# Altium schematic symbol library imx8mnano.SchLib: 20 symbols
Pins are listed as number, name and electrical type; pins without a type are passive.

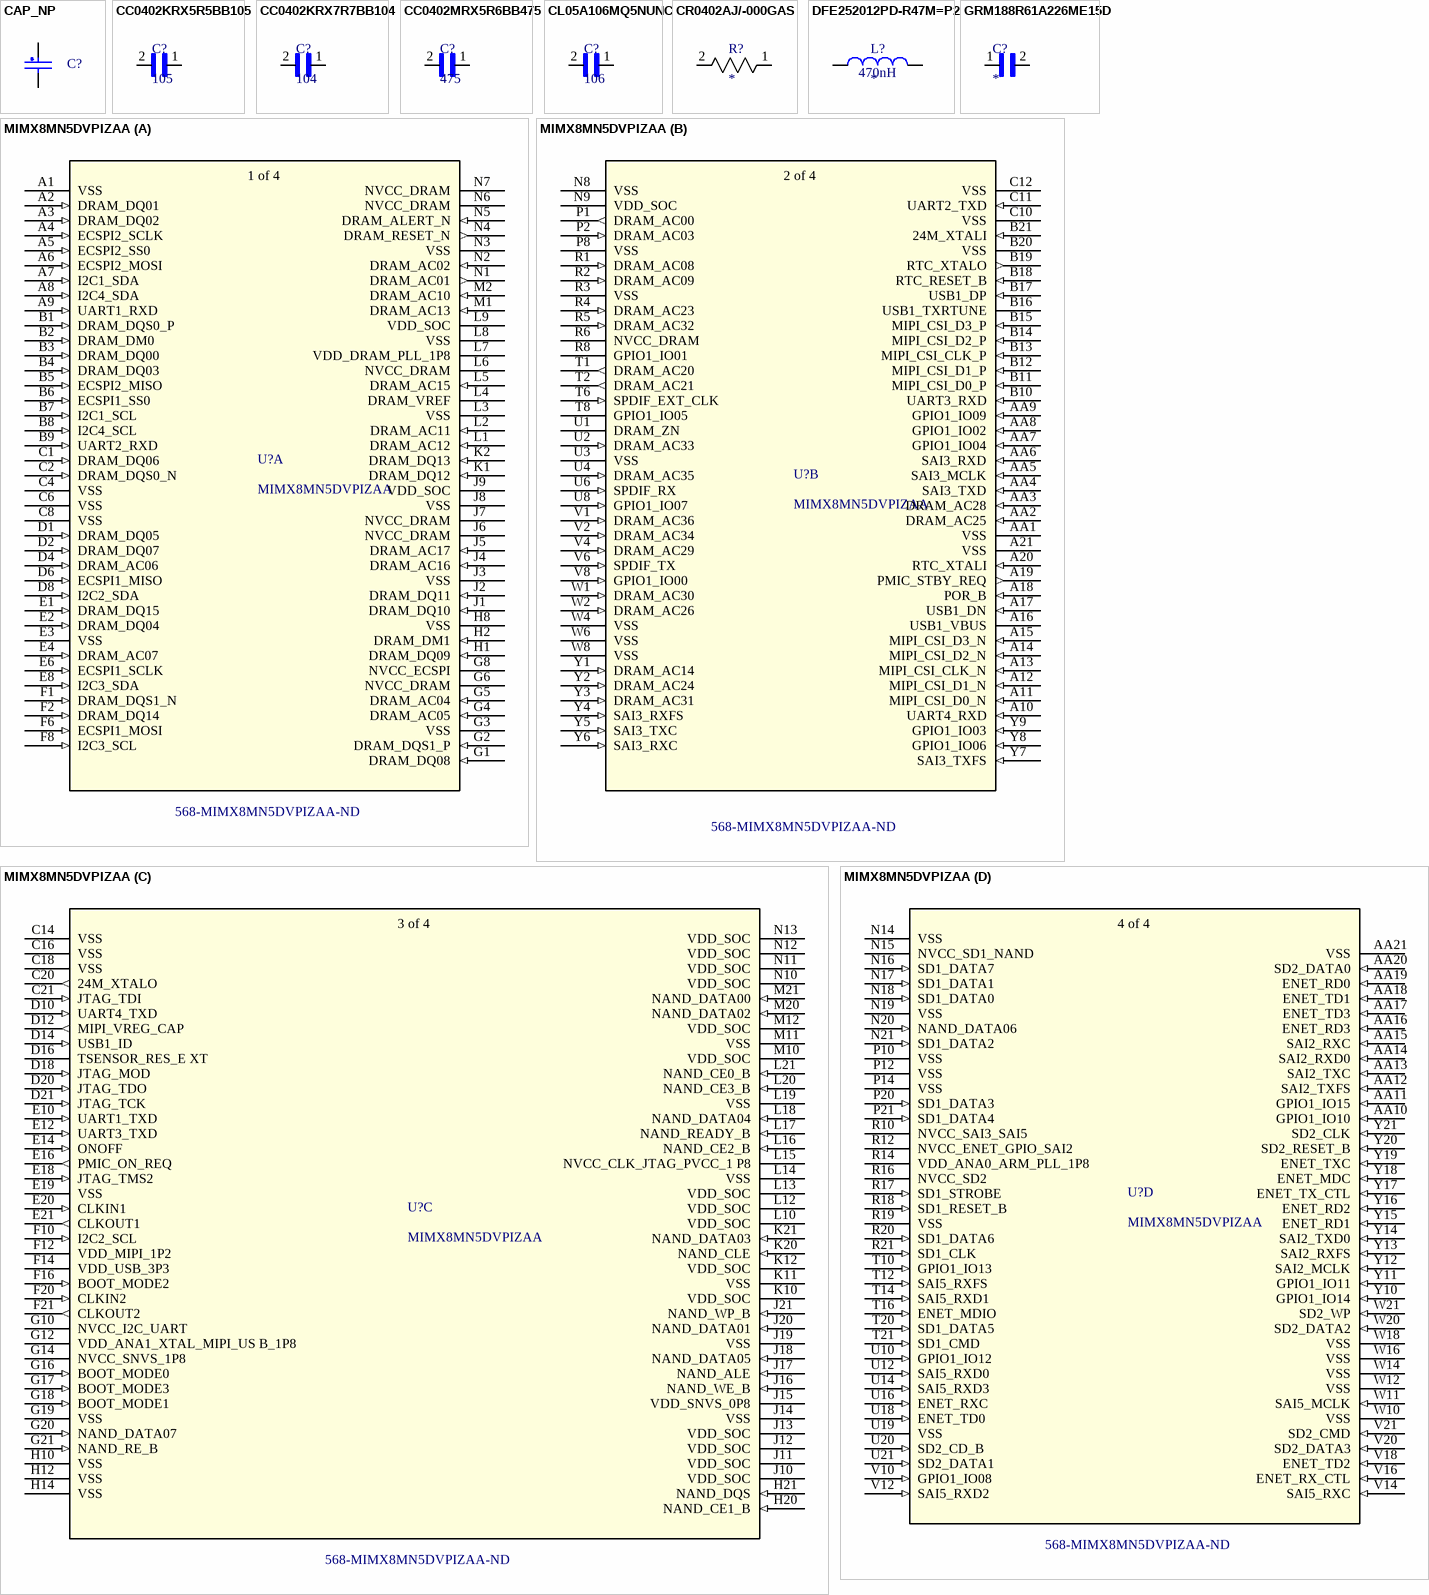
[diagram p0: symbols CAP_NP to MIMX8MN5DVPIZAA]

## CAP_NP
designator C?
CLASS: DISCRETE
footprint RC0402
pins: 1, 2

## CC0402KRX5R5BB105
designator C?, comment 105
Multilayer Ceramic Capacitor, 1 uF, 100 V, ï¿½ 10%, X7R, 0402 [1005 Metric]; Manufacturer: Yageo; Manufacturer Part Number: CC0402KRX5R5BB105; Capacitance: 1uF; Voltage Rating: 6.3V; Dielectric: X5R; Temperature Coefficient: 30ppm/°C; Supplier 1: Digikey; RoHS: Yes; Category: Ceramic Capacitors; Stock 1: 21136934; Pricing 1: 1=0.1, 10=0.054, 100=0.0318, 1000=0.02066, 2500=0.01646, 5000=0.01625 (USD); Mount: Surface Mount; Case/Package: 0402; Number of Pins: 2; Case Code (Metric): 1005; Case Code (Imperial): 0402; Dielectric Material: Ceramic; Material: Ceramic; Min Operating Temperature: -55°C; Max Operating Temperature: 85°C; Tolerance: 10%; Voltage Rating (DC): 6.3V; Packaging: Tape and Reel; Termination: SMD/SMT; Series: CC; Voltage Rating (AC): 6.3V; Length: 1mm; Width: 0.5mm; Height: 0.5mm; Depth: 0.5mm; Radiation Hardening: No; Reach SVHC Compliant: No; Lead Free: Lead Free; RoHS Compliant: Yes; Halogen Free: 5694HalogenFree; ComponentLink1URL: https://datasheet.ciiva.com/5789/70765-5789520.pdf?src-supplier=Farnell; ComponentLink1Description: https://datasheet.ciiva.com/5789/70765-5789520.pdf?src-supplier=Farnell; ComponentLink2URL: https://datasheet.ciiva.com/176/mlccorderingcode-176609.pdf?src-supplier=Digikey; ComponentLink2Description: https://datasheet.ciiva.com/176/mlccorderingcode-176609.pdf?src-supplier=Digikey; ComponentLink3URL: https://datasheet.ciiva.com/176/mlccorderingcode-176610.pdf?src-supplier=Digikey; ComponentLink3Description: https://datasheet.ciiva.com/176/mlccorderingcode-176610.pdf?src-supplier=Digikey; ComponentLink4URL: https://datasheet.ciiva.com/176/mlccorderingcode-176611.pdf?src-supplier=Digikey; ComponentLink4Description: https://datasheet.ciiva.com/176/mlccorderingcode-176611.pdf?src-supplier=Digikey; ComponentLink5URL: https://datasheet.ciiva.com/11464/upy-gphc-x5r-4v-to-50v-12-11464863.pdf?src-supplier=Avnet; ComponentLink5Description: https://datasheet.ciiva.com/11464/upy-gphc-x5r-4v-to-50v-12-11464863.pdf?src-supplier=Avnet; ComponentLink6URL: https://datasheet.ciiva.com/8033/1525783-8033643.pdf?src-supplier=Element14; ComponentLink6Description: https://datasheet.ciiva.com/8033/1525783-8033643.pdf?src-supplier=Element14; ComponentLink7URL: https://datasheet.ciiva.com/8033/1525783-8033644.pdf?src-supplier=Element14; ComponentLink7Description: https://datasheet.ciiva.com/8033/1525783-8033644.pdf?src-supplier=Element14; ComponentLink8URL: https://datasheet.ciiva.com/8033/70765-8033646.pdf?src-supplier=Element14; ComponentLink8Description: https://datasheet.ciiva.com/8033/70765-8033646.pdf?src-supplier=Element14; ComponentLink9URL: https://datasheet.ciiva.com/28450/1359354-28450285.pdf?src-supplier=Element14; ComponentLink9Description: https://datasheet.ciiva.com/28450/1359354-28450285.pdf?src-supplier=Element14; Supplier Part Number 1: 311-1438-1-ND
footprint RC0402
pins: 1, 2

## CC0402KRX7R7BB104
designator C?, comment 104
Multilayer Ceramic Capacitor, 0.1 uF, 16 V, ï¿½ 10%, X7R, 0402 [1005 Metric]; Manufacturer: Yageo; Manufacturer Part Number: CC0402KRX7R7BB104; Material: 4241ConductorMaterial; Capacitance: 100nF; Voltage Rating: 16V; Temperature Coefficient: 30ppm/°C; Supplier 1: Digikey; RoHS: Yes; Category: Ceramic Capacitors; Stock 1: 15609894; Pricing 1: 1=0.1, 10=0.024, 50=0.0164, 100=0.0139, 500=0.0098, 1000=0.00852, 2500=0.00718, 5000=0.00636 (USD); Mount: Surface Mount; Case/Package: 0402; Number of Pins: 2; Case Code (Metric): 1005; Case Code (Imperial): 0402; Min Operating Temperature: -55°C; Max Operating Temperature: 125°C; Tolerance: 10%; Voltage Rating (DC): 16V; Packaging: Tape and Reel; Package Quantity: 1; Dielectric: X7R; Termination: SMD/SMT; Voltage: 16V; Series: CC; Voltage Rating (AC): 16V; Length: 1mm; Width: 0.02inch; Height: 0.5mm; Thickness: 0.022inch; Depth: 0.5mm; Radiation Hardening: No; Reach SVHC Compliant: No; RoHS Compliant: Yes; Halogen Free: 5694HalogenFree; Lead Free: 5697LeadFree; ComponentLink1URL: https://datasheet.ciiva.com/11788/0900766b80ce67ed-11788364.pdf?src-supplier=Rs; ComponentLink1Description: https://datasheet.ciiva.com/11788/0900766b80ce67ed-11788364.pdf?src-supplier=Rs; ComponentLink2URL: https://datasheet.ciiva.com/7978/1489800-7978111.pdf?src-supplier=Element14; ComponentLink2Description: https://datasheet.ciiva.com/7978/1489800-7978111.pdf?src-supplier=Element14; ComponentLink3URL: https://datasheet.ciiva.com/161/mlccorderingcode-161545.pdf?src-supplier=Digikey; ComponentLink3Description: https://datasheet.ciiva.com/161/mlccorderingcode-161545.pdf?src-supplier=Digikey; ComponentLink4URL: https://datasheet.ciiva.com/161/mlccorderingcode-161544.pdf?src-supplier=Digikey; ComponentLink4Description: https://datasheet.ciiva.com/161/mlccorderingcode-161544.pdf?src-supplier=Digikey; ComponentLink5URL: https://datasheet.ciiva.com/161/mlccorderingcode-161546.pdf?src-supplier=Digikey; ComponentLink5Description: https://datasheet.ciiva.com/161/mlccorderingcode-161546.pdf?src-supplier=Digikey; ComponentLink6URL: https://datasheet.ciiva.com/8033/1734573-8033661.pdf?src-supplier=Element14; ComponentLink6Description: https://datasheet.ciiva.com/8033/1734573-8033661.pdf?src-supplier=Element14; ComponentLink7URL: https://datasheet.ciiva.com/11587/upy-gphc-x7r-6-3v-to-50v-8-11587305.pdf?src-supplier=Avnet; ComponentLink7Description: https://datasheet.ciiva.com/11587/upy-gphc-x7r-6-3v-to-50v-8-11587305.pdf?src-supplier=Avnet; LCSC: C60474; Supplier Part Number 1: 311-1338-1-ND
footprint CAPC1005X55N2
pins: 1, 2

## CC0402MRX5R6BB475
designator C?, comment 475
Multilayer Ceramic Capacitor, 4.7 uF, 50 V, ï¿½ 10%, X5R, 0402 [1005 Metric]; Manufacturer: Yageo; Manufacturer Part Number: CC0402MRX5R6BB475; Capacitance: 4.7uF; Voltage Rating: 10V; Tolerance: 20%; Temperature Coefficient: 30ppm/°C; Supplier 1: Digikey; RoHS: Yes; Category: Ceramic Capacitors; Stock 1: 1209136; Pricing 1: 1=0.1, 10=0.053, 50=0.0364, 100=0.0313, 500=0.0227, 1000=0.02003, 2500=0.01719, 5000=0.01547 (USD); Mount: Surface Mount; Case/Package: 0402; Case Code (Metric): 1005; Case Code (Imperial): 0402; Weight: 2.3E-05oz; Material: Ceramic; Min Operating Temperature: -55°C; Max Operating Temperature: 85°C; Packaging: Tape and Reel; Dielectric: X5R; Termination: SMD/SMT; Voltage Rating (DC): 10V; Package Quantity: 10000; Series: CC; Length: 0.039inch; Width: 0.02inch; Height: 0.5mm; Thickness: 0.022inch; Lead Free: Lead Free; Halogen Free: Halogen Free; RoHS Compliant: Yes; ComponentLink1URL: http://www.mouser.com/ds/2/447/Yageo_UPY-GP_NP0_16V-to-50V_9-358835.pdf?src-supplier=Mouser; ComponentLink1Description: http://www.mouser.com/ds/2/447/Yageo_UPY-GP_NP0_16V-to-50V_9-358835.pdf?src-supplier=Mouser; ComponentLink2URL: http://www.yageo.com/documents/recent/UPY-GPHC_X5R_4V-to-50V_25.pdf?src-supplier=Digikey; ComponentLink2Description: http://www.yageo.com/documents/recent/UPY-GPHC_X5R_4V-to-50V_25.pdf?src-supplier=Digikey; ComponentLink3URL: http://www.yageo.com/exep/pages/download/literatures/ProductSelectionGuide%202014_Final_2.pdf?src-supplier=Digikey; ComponentLink3Description: http://www.yageo.com/exep/pages/download/literatures/ProductSelectionGuide%202014_Final_2.pdf?src-supplier=Digikey; ComponentLink4URL: https://datasheet.octopart.com/CC0402MRX5R6BB475-Yageo-datasheet-140260304.pdf?src-supplier=Newark; ComponentLink4Description: https://datasheet.octopart.com/CC0402MRX5R6BB475-Yageo-datasheet-140260304.pdf?src-supplier=Newark; LCSC: C469468; Supplier Part Number 1: 311-1734-1-ND
footprint CAPC1005X55N2
pins: 1, 2

## CL05A106MQ5NUNC
designator C?, comment 106
Multilayer Ceramic Capacitor, 10 uF, 6.3 V, ï¿½ 20%, X5R, 0402 [1005 Metric]; Manufacturer: Samsung; Manufacturer Part Number: CL05A106MQ5NUNC; Capacitance: 10uF; Voltage Rating: 6.3V; Supplier 1: Avnet; RoHS: Yes; Category: Ceramic Capacitors; Stock 1: 540000; Pricing 1: 10000=0.02499, 20000=0.02486, 40000=0.02474, 60000=0.02461, 80000=0.02448 (USD); Mount: Surface Mount; Case/Package: 0402; Case Code (Metric): 1005; Case Code (Imperial): 0402; Min Operating Temperature: -55°C; Max Operating Temperature: 85°C; Packaging: Tape and Reel; Tolerance: 20%; Package Quantity: 1; Dielectric: X5R; Series: CL; Construction: Flat; Length: 1mm; Width: 0.02inch; Height: 0.5mm; Thickness: 0.028inch; Depth: 0.5mm; Radiation Hardening: No; RoHS Compliant: Yes; ComponentLink1URL: https://datasheet.ciiva.com/16437/cl05a106mq5nunc-16437356.pdf?src-supplier=Future+Electronics; ComponentLink1Description: https://datasheet.ciiva.com/16437/cl05a106mq5nunc-16437356.pdf?src-supplier=Future+Electronics; ComponentLink2URL: https://datasheet.ciiva.com/26877/getdatasheetpartid-355289-26877841.pdf?src-supplier=Verical; ComponentLink2Description: https://datasheet.ciiva.com/26877/getdatasheetpartid-355289-26877841.pdf?src-supplier=Verical; Supplier Part Number 1: CL05A106MQ5NUNC
footprint CL05A106MQ5NUNC
pins: 1, 2

## CR0402AJ/-000GAS
designator R?
Zero Ohm Resistor, Jumper, 0402 [1005 Metric], Thick Film, 63 mW, 1 A, Surface Mount; Manufacturer: Bourns; Manufacturer Part Number: CR0402AJ/-000GAS; Resistance: 0R; Max Power Dissipation: 63mW; Temperature Coefficient: 500ppm/°C; Voltage Rating (DC): 50V; Supplier 1: Digikey; RoHS: Yes; Category: Chip SMD Resistors; Stock 1: 124642; Pricing 1: 1=0.1, 10=0.024, 50=0.0144, 100=0.0117, 500=0.00752, 1000=0.00635, 5000=0.00451 (USD); Case/Package: 0402; Case Code (Imperial): 0402; Case Code (Metric): 1005; Min Operating Temperature: -55°C; Max Operating Temperature: 155°C; Features: Moisture Resistant,Automotive AEC-Q200,Anti-Sulfur; Series: CR0402A-AS; Packaging: Cut Tape; Number of Terminations: 2; Power Rating: 63mW; Ratings: AEC-Q200; ComponentLink1URL: https://www.bourns.com/docs/product-datasheets/crxxxxa-as.pdf?src-supplier=Digikey; ComponentLink1Description: https://www.bourns.com/docs/product-datasheets/crxxxxa-as.pdf?src-supplier=Digikey; Supplier Part Number 1: CR0402AJ/-000GASCT-ND
footprint RC0402X
pins: 1, 2

## DFE252012PD-R47M=P2
designator L?  Inductance: 470nH
Inductor Power Shielded Wirewound 0.47uH 20% 1MHz Metal 4A 0.027Ohm DCR 1008 Automotive T/R; Manufacturer: Murata; Manufacturer Part Number: DFE252012PD-R47M=P2; Saturation Current: 5.2A; Series Resistance: 27mR; Supplier 1: Digikey; RoHS: Yes; Category: Fixed Inductors; Stock 1: 54000; Pricing 1: 3000=0.20501, 6000=0.19333, 9000=0.18681, 15000=0.17892, 21000=0.17392, 30000=0.16876 (USD); Min Operating Temperature: -40°C; Max Operating Temperature: 125°C; Inductance Tolerance: 20%; RMS Current (Irms): 4A; Test Frequency: 1MHz; Tolerance: 20%; RoHS Compliant: Yes; ComponentLink1URL: http://www.farnell.com/datasheets/2616814.pdf?src-supplier=Farnell; ComponentLink1Description: http://www.farnell.com/datasheets/2616814.pdf?src-supplier=Farnell; ComponentLink2URL: https://search.murata.co.jp/Ceramy/image/img/P02/J(E)TE243A-9102.pdf?src-supplier=Digikey; ComponentLink2Description: https://search.murata.co.jp/Ceramy/image/img/P02/J(E)TE243A-9102.pdf?src-supplier=Digikey; ComponentLink3URL: http://www.farnell.com/datasheets/2616814.pdf?src-supplier=Newark; ComponentLink3Description: http://www.farnell.com/datasheets/2616814.pdf?src-supplier=Newark; Supplier Part Number 1: 490-DFE252012PD-R47M=P2TR-ND; Current Rating: 4A; Height: 1.2mm
footprint IND-SMD_L2.5-W2.0_SWPA252012S
pins: 1, 2

## GRM188R61A226ME15D
designator C?
SMD Capacitor X5R(EIA) with Capacitance: 22uF Tol. 20%. Rated Voltage: 10Vdc; MP: GRM188R61A226ME15D; Value: *; Availability: Unavailable; Package: None; Price: None
footprint CAPC1608X100N
pins: 1, 2

## MIMX8MN5DVPIZAA
designator U?  Supplier Part Number 1: 568-MIMX8MN5DVPIZAA-ND
I.mx 8M Nano Ultralite, Tray Multiple Dp Bakeable, Tray Rohs Compliant: Yes; Manufacturer: NXP Semiconductors; Supplier 1: Digikey; Manufacturer Part Number: MIMX8MN5DVPIZAA; RoHS: Yes; Category: Microprocessors; Stock 1: 138; Pricing 1: 1=24.94, 10=20.041, 25=18.818, 168=17.09119, 336=16.65952, 504=16.44345 (USD)
footprint MIMX8MN5DVPIZAA_NXP
part A pins: A1 VSS (power), A2 DRAM_DQ01 (in), A3 DRAM_DQ02 (in), A4 ECSPI2_SCLK (in), A5 ECSPI2_SS0 (in), A6 ECSPI2_MOSI (in), A7 I2C1_SDA (in), A8 I2C4_SDA (in), A9 UART1_RXD (in), B1 DRAM_DQS0_P (in), B2 DRAM_DM0 (in), B3 DRAM_DQ00 (in), B4 DRAM_DQ03 (in), B5 ECSPI2_MISO (in), B6 ECSPI1_SS0 (in), B7 I2C1_SCL (in), B8 I2C4_SCL (in), B9 UART2_RXD (in), C1 DRAM_DQ06 (in), C2 DRAM_DQS0_N (in), C4 VSS (power), C6 VSS (power), C8 VSS (power), D1 DRAM_DQ05 (in), D2 DRAM_DQ07 (in), D4 DRAM_AC06 (in), D6 ECSPI1_MISO (in), D8 I2C2_SDA (in), E1 DRAM_DQ15 (in), E2 DRAM_DQ04 (in), E3 VSS (power), E4 DRAM_AC07 (in), E6 ECSPI1_SCLK (in), E8 I2C3_SDA (in), F1 DRAM_DQS1_N (in), F2 DRAM_DQ14 (in), F6 ECSPI1_MOSI (in), F8 I2C3_SCL (in), G1 DRAM_DQ08 (in), G2 DRAM_DQS1_P (in), G3 VSS (power), G4 DRAM_AC05 (in), G5 DRAM_AC04 (in), G6 NVCC_DRAM (power), G8 NVCC_ECSPI (power), H1 DRAM_DQ09 (in), H2 DRAM_DM1 (in), H8 VSS (power), J1 DRAM_DQ10 (in), J2 DRAM_DQ11 (in), J3 VSS (power), J4 DRAM_AC16 (in), J5 DRAM_AC17 (in), J6 NVCC_DRAM (power), J7 NVCC_DRAM (power), J8 VSS (power), J9 VDD_SOC (power), K1 DRAM_DQ12 (in), K2 DRAM_DQ13 (in), L1 DRAM_AC12 (in), L2 DRAM_AC11 (in), L3 VSS (power), L4 DRAM_VREF, L5 DRAM_AC15 (in), L6 NVCC_DRAM (power), L7 VDD_DRAM_PLL_1P8 (power), L8 VSS (power), L9 VDD_SOC (power), M1 DRAM_AC13 (in), M2 DRAM_AC10 (in), N1 DRAM_AC01 (out), N2 DRAM_AC02 (in), N3 VSS (power), N4 DRAM_RESET_N (out), N5 DRAM_ALERT_N (in), N6 NVCC_DRAM (power), N7 NVCC_DRAM (power)
part B pins: A10 UART4_RXD (in), A11 MIPI_CSI_D0_N (in), A12 MIPI_CSI_D1_N (in), A13 MIPI_CSI_CLK_N (in), A14 MIPI_CSI_D2_N (in), A15 MIPI_CSI_D3_N (in), A16 USB1_VBUS, A17 USB1_DN (in), A18 POR_B (in), A19 PMIC_STBY_REQ (out), A20 RTC_XTALI (in), A21 VSS (power), AA1 VSS (power), AA2 DRAM_AC25 (in), AA3 DRAM_AC28 (in), AA4 SAI3_TXD (in), AA5 SAI3_MCLK (in), AA6 SAI3_RXD (in), AA7 GPIO1_IO04 (in), AA8 GPIO1_IO02 (in), AA9 GPIO1_IO09 (in), B10 UART3_RXD (in), B11 MIPI_CSI_D0_P (in), B12 MIPI_CSI_D1_P (in), B13 MIPI_CSI_CLK_P (in), B14 MIPI_CSI_D2_P (in), B15 MIPI_CSI_D3_P (in), B16 USB1_TXRTUNE, B17 USB1_DP (in), B18 RTC_RESET_B (in), B19 RTC_XTALO (out), B20 VSS (power), B21 24M_XTALI (in), C10 VSS (power), C11 UART2_TXD (in), C12 VSS (power), N8 VSS (power), N9 VDD_SOC (power), P1 DRAM_AC00 (out), P2 DRAM_AC03 (in), P8 VSS (power), R1 DRAM_AC08 (in), R2 DRAM_AC09 (in), R3 VSS (power), R4 DRAM_AC23 (in), R5 DRAM_AC32 (in), R6 NVCC_DRAM (power), R8 GPIO1_IO01, T1 DRAM_AC20 (out), T2 DRAM_AC21 (out), T6 SPDIF_EXT_CLK (in), T8 GPIO1_IO05, U1 DRAM_ZN, U2 DRAM_AC33 (in), U3 VSS (power), U4 DRAM_AC35 (in), U6 SPDIF_RX (in), U8 GPIO1_IO07 (in), V1 DRAM_AC36 (in), V2 DRAM_AC34 (in), V4 DRAM_AC29 (in), V6 SPDIF_TX (in), V8 GPIO1_IO00 (in), W1 DRAM_AC30 (in), W2 DRAM_AC26 (in), W4 VSS (power), W6 VSS (power), W8 VSS (power), Y1 DRAM_AC14 (in), Y2 DRAM_AC24 (in), Y3 DRAM_AC31 (in), Y4 SAI3_RXFS (in), Y5 SAI3_TXC (in), Y6 SAI3_RXC (in), Y7 SAI3_TXFS (in), Y8 GPIO1_IO06 (in), Y9 GPIO1_IO03 (in)
part C pins: C14 VSS (power), C16 VSS (power), C18 VSS (power), C20 24M_XTALO (out), C21 JTAG_TDI (in), D10 UART4_TXD (in), D12 MIPI_VREG_CAP (out), D14 USB1_ID (in), D16 TSENSOR_RES_E XT, D18 JTAG_MOD (in), D20 JTAG_TDO (in), D21 JTAG_TCK (in), E10 UART1_TXD (in), E12 UART3_TXD (in), E14 ONOFF (in), E16 PMIC_ON_REQ (out), E18 JTAG_TMS2 (in), E19 VSS (power), E20 CLKIN1 (in), E21 CLKOUT1 (out), F10 I2C2_SCL (in), F12 VDD_MIPI_1P2 (power), F14 VDD_USB_3P3 (power), F16 BOOT_MODE2 (in), F20 CLKIN2 (in), F21 CLKOUT2 (out), G10 NVCC_I2C_UART (power), G12 VDD_ANA1_XTAL_MIPI_US B_1P8 (power), G14 NVCC_SNVS_1P8 (power), G16 BOOT_MODE0 (in), G17 BOOT_MODE3 (in), G18 BOOT_MODE1 (in), G19 VSS (power), G20 NAND_DATA07 (in), G21 NAND_RE_B (in), H10 VSS (power), H12 VSS (power), H14 VSS (power), H20 NAND_CE1_B (in), H21 NAND_DQS (in), J10 VDD_SOC (power), J11 VDD_SOC (power), J12 VDD_SOC (power), J13 VDD_SOC (power), J14 VSS (power), J15 VDD_SNVS_0P8 (power), J16 NAND_WE_B (in), J17 NAND_ALE (in), J18 NAND_DATA05 (in), J19 VSS (power), J20 NAND_DATA01 (in), J21 NAND_WP_B (in), K10 VDD_SOC (power), K11 VSS (power), K12 VDD_SOC (power), K20 NAND_CLE (in), K21 NAND_DATA03 (in), L10 VDD_SOC (power), L12 VDD_SOC (power), L13 VDD_SOC (power), L14 VSS (power), L15 NVCC_CLK_JTAG_PVCC_1 P8 (power), L16 NAND_CE2_B (in), L17 NAND_READY_B (in), L18 NAND_DATA04 (in), L19 VSS (power), L20 NAND_CE3_B (in), L21 NAND_CE0_B (in), M10 VDD_SOC (power), M11 VSS (power), M12 VDD_SOC (power), M20 NAND_DATA02 (in), M21 NAND_DATA00 (in), N10 VDD_SOC (power), N11 VDD_SOC (power), N12 VDD_SOC (power), N13 VDD_SOC (power)
part D pins: AA10 GPIO1_IO10 (in), AA11 GPIO1_IO15 (in), AA12 SAI2_TXFS (in), AA13 SAI2_TXC (in), AA14 SAI2_RXD0 (in), AA15 SAI2_RXC (in), AA16 ENET_RD3 (in), AA17 ENET_TD3 (in), AA18 ENET_TD1 (in), AA19 ENET_RD0 (in), AA20 SD2_DATA0 (in), AA21 VSS (power), N14 VSS (power), N15 NVCC_SD1_NAND (power), N16 SD1_DATA7 (in), N17 SD1_DATA1 (in), N18 SD1_DATA0 (in), N19 VSS (power), N20 NAND_DATA06 (in), N21 SD1_DATA2 (in), P10 VSS (power), P12 VSS (power), P14 VSS (power), P20 SD1_DATA3 (in), P21 SD1_DATA4 (in), R10 NVCC_SAI3_SAI5 (power), R12 NVCC_ENET_GPIO_SAI2 (power), R14 VDD_ANA0_ARM_PLL_1P8 (power), R16 NVCC_SD2 (power), R17 SD1_STROBE (in), R18 SD1_RESET_B (in), R19 VSS (power), R20 SD1_DATA6 (in), R21 SD1_CLK (in), T10 GPIO1_IO13 (in), T12 SAI5_RXFS (in), T14 SAI5_RXD1 (in), T16 ENET_MDIO (in), T20 SD1_DATA5 (in), T21 SD1_CMD (in), U10 GPIO1_IO12 (in), U12 SAI5_RXD0 (in), U14 SAI5_RXD3 (in), U16 ENET_RXC (in), U18 ENET_TD0 (in), U19 VSS (power), U20 SD2_CD_B (in), U21 SD2_DATA1 (in), V10 GPIO1_IO08 (in), V12 SAI5_RXD2 (in), V14 SAI5_RXC (in), V16 ENET_RX_CTL (in), V18 ENET_TD2 (in), V20 SD2_DATA3 (in), V21 SD2_CMD (in), W10 VSS (power), W11 SAI5_MCLK (in), W12 VSS (power), W14 VSS (power), W16 VSS (power), W18 VSS (power), W20 SD2_DATA2 (in), W21 SD2_WP (in), Y10 GPIO1_IO14 (in), Y11 GPIO1_IO11 (in), Y12 SAI2_MCLK (in), Y13 SAI2_RXFS (in), Y14 SAI2_TXD0 (in), Y15 ENET_RD1 (in), Y16 ENET_RD2 (in), Y17 ENET_TX_CTL (in), Y18 ENET_MDC (in), Y19 ENET_TXC (in), Y20 SD2_RESET_B (in), Y21 SD2_CLK (in)
part A text: 1 of 4
part B text: 2 of 4
part C text: 3 of 4
part D text: 4 of 4

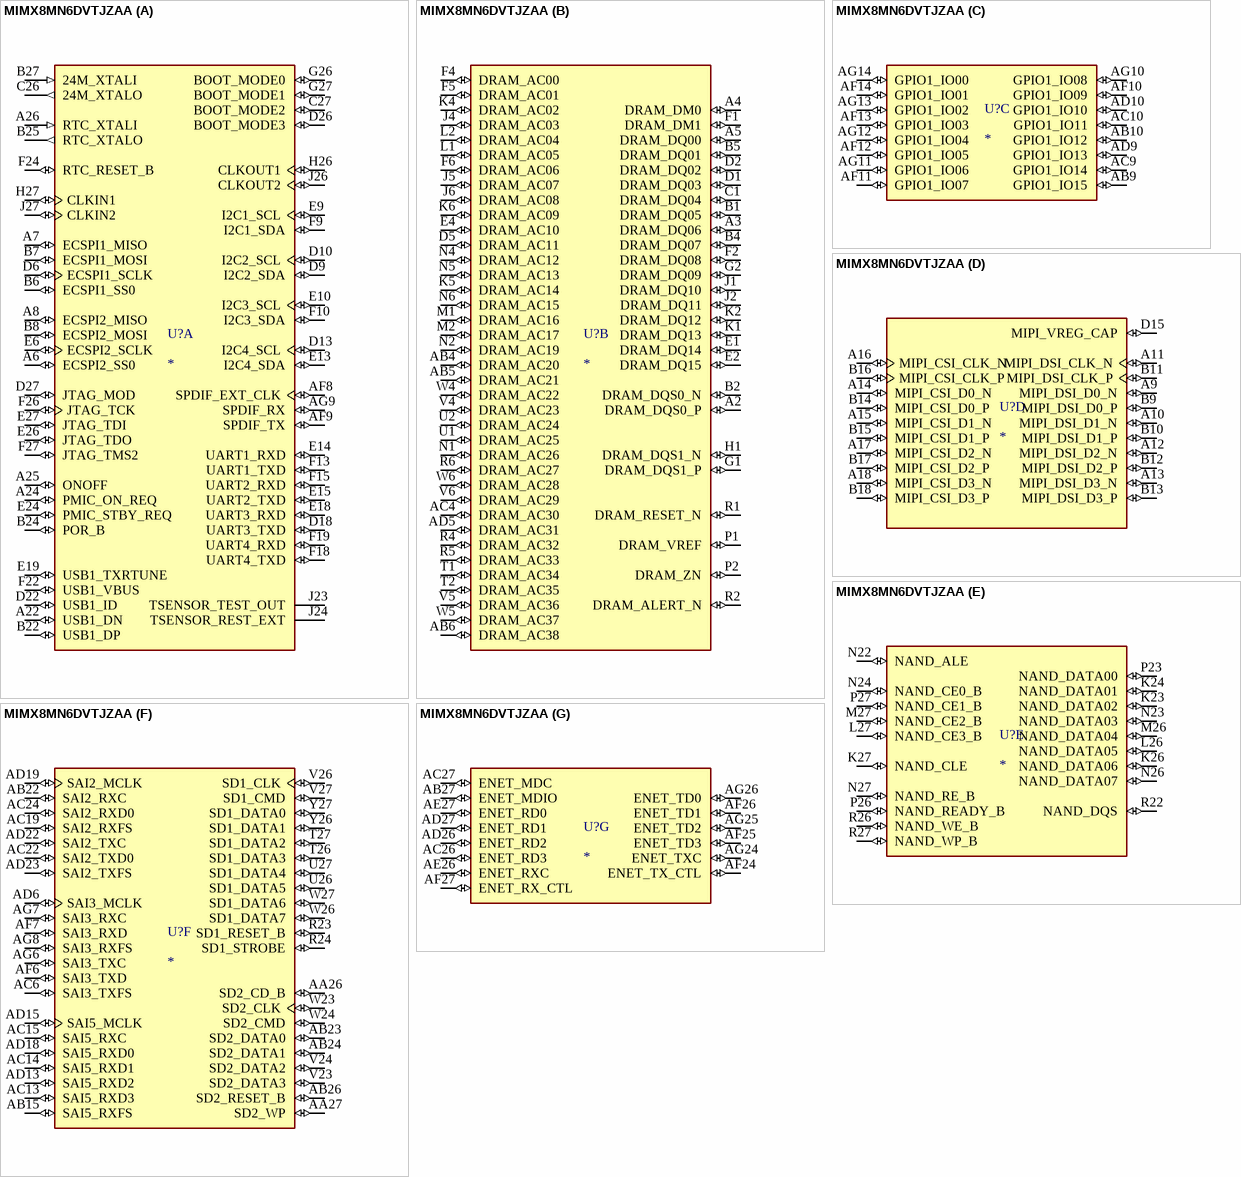
[diagram p1: symbol MIMX8MN6DVTJZAA]

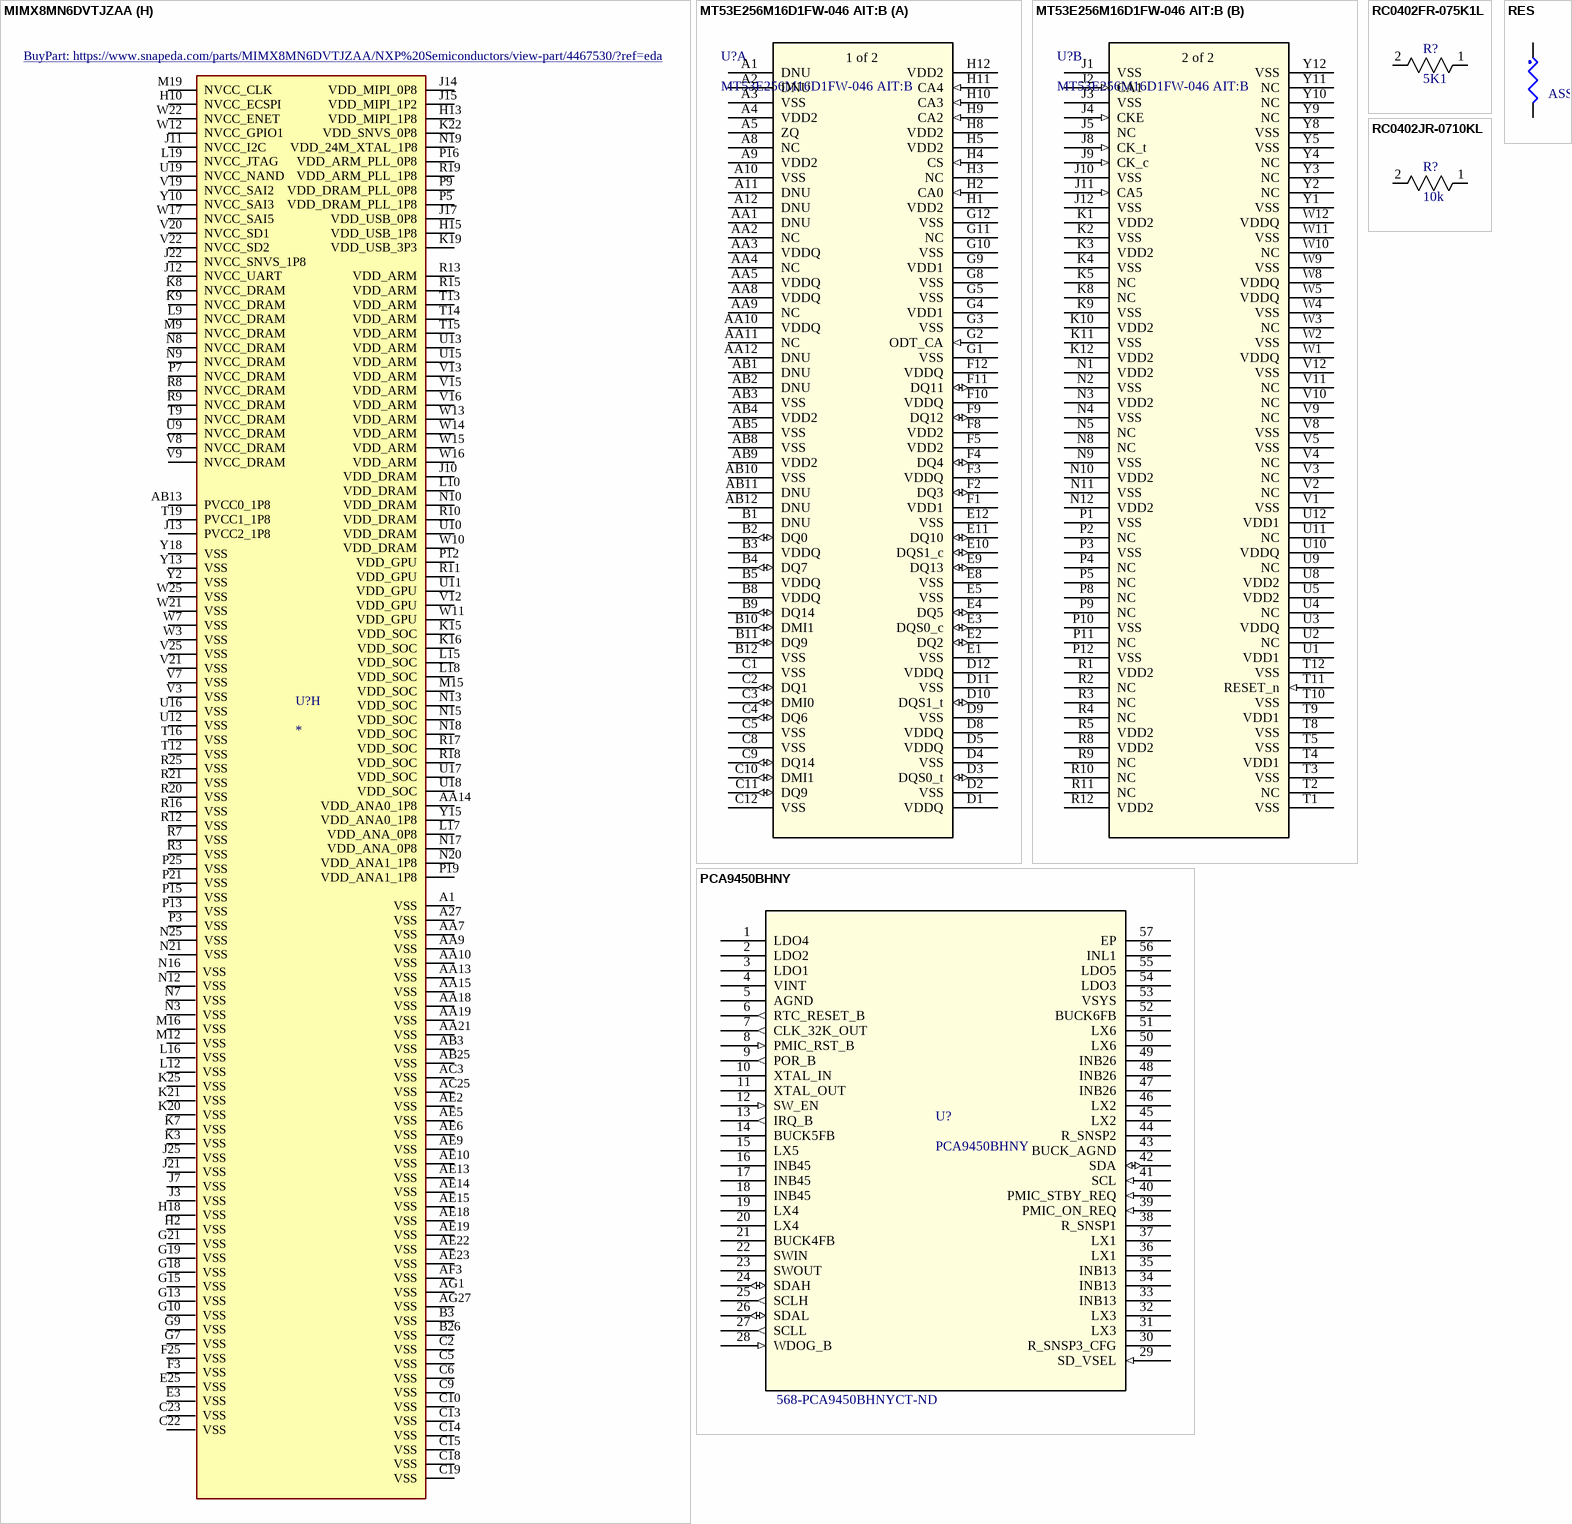
[diagram p2: symbols MIMX8MN6DVTJZAA to RES]

## MIMX8MN6DVTJZAA
designator U?
ARMÂ® CortexÂ®-A53 Microprocessor IC i.MX8MN 4 Core, 32-Bit 1.5GHz 486-LFBGA (14x14); MF: NXP USA Inc.; MP: MIMX8MN6DVTJZAA; Package: LFBGA-486 NXP USA Inc.; Price: None; Mouser-Purchase-URL: https://snapeda.com/shop?store=Mouser&id=4467530; Availability: Warning; SnapEDA_Link: https://www.snapeda.com/parts/MIMX8MN6DVTJZAA/NXP%20Semiconductors/view-part/4467530/?ref=snap; Value: *; Arrow_Electronics-Purchase-URL: https://snapeda.com/shop?store=Arrow+Electronics&id=4467530; BuyPart: https://www.snapeda.com/parts/MIMX8MN6DVTJZAA/NXP%20Semiconductors/view-part/4467530/?ref=eda
footprint BGA486N50P27X27_1400X1400X125N
part A pins: A6 ECSPI2_SS0 (io), A7 ECSPI1_MISO (io), A8 ECSPI2_MISO (io), A22 USB1_DN (io), A24 PMIC_ON_REQ (io), A25 ONOFF (io), A26 RTC_XTALI (in), AF8 SPDIF_EXT_CLK (io), AF9 SPDIF_TX (io), AG9 SPDIF_RX (io), B6 ECSPI1_SS0 (io), B7 ECSPI1_MOSI (io), B8 ECSPI2_MOSI (io), B22 USB1_DP (io), B24 POR_B (io), B25 RTC_XTALO (out), B27 24M_XTALI (in), C26 24M_XTALO (out), C27 BOOT_MODE2 (io), D6 ECSPI1_SCLK (io), D9 I2C2_SDA (io), D10 I2C2_SCL (io), D13 I2C4_SCL (io), D18 UART3_TXD (io), D22 USB1_ID (io), D26 BOOT_MODE3 (io), D27 JTAG_MOD (io), E6 ECSPI2_SCLK (io), E9 I2C1_SCL (io), E10 I2C3_SCL (io), E13 I2C4_SDA (io), E14 UART1_RXD (io), E15 UART2_TXD (io), E18 UART3_RXD (io), E19 USB1_TXRTUNE (io), E24 PMIC_STBY_REQ (io), E26 JTAG_TDO (io), E27 JTAG_TDI (io), F9 I2C1_SDA (io), F10 I2C3_SDA (io), F13 UART1_TXD (io), F15 UART2_RXD (io), F18 UART4_TXD (io), F19 UART4_RXD (io), F22 USB1_VBUS (io), F24 RTC_RESET_B (io), F26 JTAG_TCK (io), F27 JTAG_TMS2 (io), G26 BOOT_MODE0 (io), G27 BOOT_MODE1 (io), H26 CLKOUT1 (io), H27 CLKIN1 (io), J23 TSENSOR_TEST_OUT, J24 TSENSOR_REST_EXT, J26 CLKOUT2 (io), J27 CLKIN2 (io)
part B pins: A2 DRAM_DQS0_P (io), A3 DRAM_DQ06 (io), A4 DRAM_DM0 (io), A5 DRAM_DQ00 (io), AB4 DRAM_AC20 (io), AB5 DRAM_AC21 (io), AB6 DRAM_AC38 (io), AC4 DRAM_AC30 (io), AD5 DRAM_AC31 (io), B1 DRAM_DQ05 (io), B2 DRAM_DQS0_N (io), B4 DRAM_DQ07 (io), B5 DRAM_DQ01 (io), C1 DRAM_DQ04 (io), D1 DRAM_DQ03 (io), D2 DRAM_DQ02 (io), D5 DRAM_AC11 (io), E1 DRAM_DQ14 (io), E2 DRAM_DQ15 (io), E4 DRAM_AC10 (io), F1 DRAM_DM1 (io), F2 DRAM_DQ08 (io), F4 DRAM_AC00 (io), F5 DRAM_AC01 (io), F6 DRAM_AC06 (io), G1 DRAM_DQS1_P (io), G2 DRAM_DQ09 (io), H1 DRAM_DQS1_N (io), J1 DRAM_DQ10 (io), J2 DRAM_DQ11 (io), J4 DRAM_AC03 (io), J5 DRAM_AC07 (io), J6 DRAM_AC08 (io), K1 DRAM_DQ13 (io), K2 DRAM_DQ12 (io), K4 DRAM_AC02 (io), K5 DRAM_AC14 (io), K6 DRAM_AC09 (io), L1 DRAM_AC05 (io), L2 DRAM_AC04 (io), M1 DRAM_AC16 (io), M2 DRAM_AC17 (io), N1 DRAM_AC26 (io), N2 DRAM_AC19 (io), N4 DRAM_AC12 (io), N5 DRAM_AC13 (io), N6 DRAM_AC15 (io), P1 DRAM_VREF (io), P2 DRAM_ZN (io), R1 DRAM_RESET_N (io), R2 DRAM_ALERT_N (io), R4 DRAM_AC32 (io), R5 DRAM_AC33 (io), R6 DRAM_AC27 (io), T1 DRAM_AC34 (io), T2 DRAM_AC35 (io), U1 DRAM_AC25 (io), U2 DRAM_AC24 (io), V4 DRAM_AC23 (io), V5 DRAM_AC36 (io), V6 DRAM_AC29 (io), W4 DRAM_AC22 (io), W5 DRAM_AC37 (io), W6 DRAM_AC28 (io)
part C pins: AB9 GPIO1_IO15 (io), AB10 GPIO1_IO12 (io), AC9 GPIO1_IO14 (io), AC10 GPIO1_IO11 (io), AD9 GPIO1_IO13 (io), AD10 GPIO1_IO10 (io), AF10 GPIO1_IO09 (io), AF11 GPIO1_IO07 (io), AF12 GPIO1_IO05 (io), AF13 GPIO1_IO03 (io), AF14 GPIO1_IO01 (io), AG10 GPIO1_IO08 (io), AG11 GPIO1_IO06 (io), AG12 GPIO1_IO04 (io), AG13 GPIO1_IO02 (io), AG14 GPIO1_IO00 (io)
part D pins: A9 MIPI_DSI_D0_N (io), A10 MIPI_DSI_D1_N (io), A11 MIPI_DSI_CLK_N (io), A12 MIPI_DSI_D2_N (io), A13 MIPI_DSI_D3_N (io), A14 MIPI_CSI_D0_N (io), A15 MIPI_CSI_D1_N (io), A16 MIPI_CSI_CLK_N (io), A17 MIPI_CSI_D2_N (io), A18 MIPI_CSI_D3_N (io), B9 MIPI_DSI_D0_P (io), B10 MIPI_DSI_D1_P (io), B11 MIPI_DSI_CLK_P (io), B12 MIPI_DSI_D2_P (io), B13 MIPI_DSI_D3_P (io), B14 MIPI_CSI_D0_P (io), B15 MIPI_CSI_D1_P (io), B16 MIPI_CSI_CLK_P (io), B17 MIPI_CSI_D2_P (io), B18 MIPI_CSI_D3_P (io), D15 MIPI_VREG_CAP (io)
part E pins: K23 NAND_DATA02 (io), K24 NAND_DATA01 (io), K26 NAND_DATA06 (io), K27 NAND_CLE (io), L26 NAND_DATA05 (io), L27 NAND_CE3_B (io), M26 NAND_DATA04 (io), M27 NAND_CE2_B (io), N22 NAND_ALE (io), N23 NAND_DATA03 (io), N24 NAND_CE0_B (io), N26 NAND_DATA07 (io), N27 NAND_RE_B (io), P23 NAND_DATA00 (io), P26 NAND_READY_B (io), P27 NAND_CE1_B (io), R22 NAND_DQS (io), R26 NAND_WE_B (io), R27 NAND_WP_B (io)
part F pins: AA26 SD2_CD_B (io), AA27 SD2_WP (io), AB15 SAI5_RXFS (io), AB22 SAI2_RXC (io), AB23 SD2_DATA0 (io), AB24 SD2_DATA1 (io), AB26 SD2_RESET_B (io), AC6 SAI3_TXFS (io), AC13 SAI5_RXD3 (io), AC14 SAI5_RXD1 (io), AC15 SAI5_RXC (io), AC19 SAI2_RXFS (io), AC22 SAI2_TXD0 (io), AC24 SAI2_RXD0 (io), AD6 SAI3_MCLK (io), AD13 SAI5_RXD2 (io), AD15 SAI5_MCLK (io), AD18 SAI5_RXD0 (io), AD19 SAI2_MCLK (io), AD22 SAI2_TXC (io), AD23 SAI2_TXFS (io), AF6 SAI3_TXD (io), AF7 SAI3_RXD (io), AG6 SAI3_TXC (io), AG7 SAI3_RXC (io), AG8 SAI3_RXFS (io), R23 SD1_RESET_B (io), R24 SD1_STROBE (io), T26 SD1_DATA3 (io), T27 SD1_DATA2 (io), U26 SD1_DATA5 (io), U27 SD1_DATA4 (io), V23 SD2_DATA3 (io), V24 SD2_DATA2 (io), V26 SD1_CLK (io), V27 SD1_CMD (io), W23 SD2_CLK (io), W24 SD2_CMD (io), W26 SD1_DATA7 (io), W27 SD1_DATA6 (io), Y26 SD1_DATA1 (io), Y27 SD1_DATA0 (io)
part G pins: AB27 ENET_MDIO (io), AC26 ENET_RD3 (io), AC27 ENET_MDC (io), AD26 ENET_RD2 (io), AD27 ENET_RD1 (io), AE26 ENET_RXC (io), AE27 ENET_RD0 (io), AF24 ENET_TX_CTL (io), AF25 ENET_TD3 (io), AF26 ENET_TD1 (io), AF27 ENET_RX_CTL (io), AG24 ENET_TXC (io), AG25 ENET_TD2 (io), AG26 ENET_TD0 (io)
part H pins: A1 VSS (power), A27 VSS (power), AA7 VSS (power), AA9 VSS (power), AA10 VSS (power), AA13 VSS (power), AA14 VDD_ANA0_1P8 (power), AA15 VSS (power), AA18 VSS (power), AA19 VSS (power), AA21 VSS (power), AB3 VSS (power), AB13 PVCC0_1P8 (power), AB25 VSS (power), AC3 VSS (power), AC25 VSS (power), AE2 VSS (power), AE5 VSS (power), AE6 VSS (power), AE9 VSS (power), AE10 VSS (power), AE13 VSS (power), AE14 VSS (power), AE15 VSS (power), AE18 VSS (power), AE19 VSS (power), AE22 VSS (power), AE23 VSS (power), AF3 VSS (power), AG1 VSS (power), AG27 VSS (power), B3 VSS (power), B26 VSS (power), C2 VSS (power), C5 VSS (power), C6 VSS (power), C9 VSS (power), C10 VSS (power), C13 VSS (power), C14 VSS (power), C15 VSS (power), C18 VSS (power), C19 VSS (power), C22 VSS (power), C23 VSS (power), E3 VSS (power), E25 VSS (power), F3 VSS (power), F25 VSS (power), G7 VSS (power), G9 VSS (power), G10 VSS (power), G13 VSS (power), G15 VSS (power), G18 VSS (power), G19 VSS (power), G21 VSS (power), H2 VSS (power), H10 NVCC_ECSPI (power), H13 VDD_MIPI_1P8 (power), H15 VDD_USB_1P8 (power), H18 VSS (power), J3 VSS (power), J7 VSS (power), J10 VDD_DRAM (power), J11 NVCC_I2C (power), J12 NVCC_UART (power), J13 PVCC2_1P8 (power), J14 VDD_MIPI_0P8 (power), J15 VDD_MIPI_1P2 (power), J17 VDD_USB_0P8 (power), J21 VSS (power), J22 NVCC_SNVS_1P8 (power), J25 VSS (power), K3 VSS (power), K7 VSS (power), K8 NVCC_DRAM (power), K9 NVCC_DRAM (power), K15 VDD_SOC (power), K16 VDD_SOC (power), K19 VDD_USB_3P3 (power), K20 VSS (power), K21 VSS (power), K22 VDD_SNVS_0P8 (power), K25 VSS (power), L9 NVCC_DRAM (power), L10 VDD_DRAM (power), L12 VSS (power), L15 VDD_SOC (power), L16 VSS (power), L17 VDD_ANA_0P8 (power), L18 VDD_SOC (power), L19 NVCC_JTAG (power), M9 NVCC_DRAM (power), M12 VSS (power), M15 VDD_SOC (power), M16 VSS (power), M19 NVCC_CLK (power), N3 VSS (power), N7 VSS (power), N8 NVCC_DRAM (power), N9 NVCC_DRAM (power), N10 VDD_DRAM (power), N12 VSS (power), N13 VDD_SOC (power), N15 VDD_SOC (power), N16 VSS (power), N17 VDD_ANA_0P8 (power), N18 VDD_SOC (power), N19 VDD_24M_XTAL_1P8 (power), N20 VDD_ANA1_1P8 (power), N21 VSS (power), N25 VSS (power), P3 VSS (power), P5 VDD_DRAM_PLL_1P8 (power), P7 NVCC_DRAM (power), P9 VDD_DRAM_PLL_0P8 (power), P12 VDD_GPU (power), P13 VSS (power), P15 VSS (power), P16 VDD_ARM_PLL_0P8 (power), P19 VDD_ANA1_1P8 (power), P21 VSS (power), P25 VSS (power), R3 VSS (power), R7 VSS (power), R8 NVCC_DRAM (power), R9 NVCC_DRAM (power), R10 VDD_DRAM (power), R11 VDD_GPU (power), R12 VSS (power), R13 VDD_ARM (power), R15 VDD_ARM (power), R16 VSS (power), R17 VDD_SOC (power), R18 VDD_SOC (power), R19 VDD_ARM_PLL_1P8 (power), R20 VSS (power), R21 VSS (power), R25 VSS (power), T9 NVCC_DRAM (power), T12 VSS (power), T13 VDD_ARM (power), T14 VDD_ARM (power), T15 VDD_ARM (power), T16 VSS (power), T19 PVCC1_1P8 (power), U9 NVCC_DRAM (power), U10 VDD_DRAM (power), U11 VDD_GPU (power), U12 VSS (power), U13 VDD_ARM (power), U15 VDD_ARM (power), U16 VSS (power), U17 VDD_SOC (power), U18 VDD_SOC (power), U19 NVCC_NAND (power), V3 VSS (power), V7 VSS (power), V8 NVCC_DRAM (power), V9 NVCC_DRAM (power), V12 VDD_GPU (power), V13 VDD_ARM (power), V15 VDD_ARM (power), V16 VDD_ARM (power), V19 NVCC_SAI2 (power), V20 NVCC_SD1 (power), V21 VSS (power), V22 NVCC_SD2 (power), V25 VSS (power), W3 VSS (power), W7 VSS (power), W10 VDD_DRAM (power), W11 VDD_GPU (power), W12 NVCC_GPIO1 (power), W13 VDD_ARM (power), W14 VDD_ARM (power), W15 VDD_ARM (power), W16 VDD_ARM (power), W17 NVCC_SAI5 (power), W21 VSS (power), W22 NVCC_ENET (power), W25 VSS (power), Y2 VSS (power), Y10 NVCC_SAI3 (power), Y13 VSS (power), Y15 VDD_ANA0_1P8 (power), Y18 VSS (power)

## MT53E256M16D1FW-046 AIT:B
designator U?
No Description Available; Mfr_Name: Micron; Type: Memory; RefDes: RefDes
footprint TFBGA200_10X14p5X1p1_FW_MRN-M
part A pins: A1 DNU, A2 DNU, A3 VSS (power), A4 VDD2 (power), A5 ZQ (power), A8 NC, A9 VDD2 (power), A10 VSS (power), A11 DNU, A12 DNU, AA1 DNU, AA2 NC, AA3 VDDQ (power), AA4 NC, AA5 VDDQ (power), AA8 VDDQ (power), AA9 NC, AA10 VDDQ (power), AA11 NC, AA12 DNU, AB1 DNU, AB2 DNU, AB3 VSS (power), AB4 VDD2 (power), AB5 VSS (power), AB8 VSS (power), AB9 VDD2 (power), AB10 VSS (power), AB11 DNU, AB12 DNU, B1 DNU, B2 DQ0 (io), B3 VDDQ (power), B4 DQ7 (io), B5 VDDQ (power), B8 VDDQ (power), B9 DQ14 (io), B10 DMI1 (io), B11 DQ9 (io), B12 VSS (power), C1 VSS (power), C2 DQ1 (io), C3 DMI0 (io), C4 DQ6 (io), C5 VSS (power), C8 VSS (power), C9 DQ14 (io), C10 DMI1 (io), C11 DQ9 (io), C12 VSS (power), D1 VDDQ (power), D2 VSS (power), D3 DQS0_t (io), D4 VSS (power), D5 VDDQ (power), D8 VDDQ (power), D9 VSS (power), D10 DQS1_t (io), D11 VSS (power), D12 VDDQ (power), E1 VSS (power), E2 DQ2 (io), E3 DQS0_c (io), E4 DQ5 (io), E5 VSS (power), E8 VSS (power), E9 DQ13 (io), E10 DQS1_c (io), E11 DQ10 (io), E12 VSS (power), F1 VDD1 (power), F2 DQ3 (io), F3 VDDQ (power), F4 DQ4 (io), F5 VDD2 (power), F8 VDD2 (power), F9 DQ12 (io), F10 VDDQ (power), F11 DQ11 (io), F12 VDDQ (power), G1 VSS (power), G2 ODT_CA (in), G3 VSS (power), G4 VDD1 (power), G5 VSS (power), G8 VSS (power), G9 VDD1 (power), G10 VSS (power), G11 NC, G12 VSS (power), H1 VDD2 (power), H2 CA0 (in), H3 NC, H4 CS (in), H5 VDD2 (power), H8 VDD2 (power), H9 CA2 (in), H10 CA3 (in), H11 CA4 (in), H12 VDD2 (power)
part B pins: J1 VSS (power), J2 CA1 (in), J3 VSS (power), J4 CKE (in), J5 NC, J8 CK_t (in), J9 CK_c (in), J10 VSS (power), J11 CA5 (in), J12 VSS (power), K1 VDD2 (power), K2 VSS (power), K3 VDD2 (power), K4 VSS (power), K5 NC, K8 NC, K9 VSS (power), K10 VDD2 (power), K11 VSS (power), K12 VDD2 (power), N1 VDD2 (power), N2 VSS (power), N3 VDD2 (power), N4 VSS (power), N5 NC, N8 NC, N9 VSS (power), N10 VDD2 (power), N11 VSS (power), N12 VDD2 (power), P1 VSS (power), P2 NC, P3 VSS (power), P4 NC, P5 NC, P8 NC, P9 NC, P10 VSS (power), P11 NC, P12 VSS (power), R1 VDD2 (power), R2 NC, R3 NC, R4 NC, R5 VDD2 (power), R8 VDD2 (power), R9 NC, R10 NC, R11 NC, R12 VDD2 (power), T1 VSS (power), T2 NC, T3 VSS (power), T4 VDD1 (power), T5 VSS (power), T8 VSS (power), T9 VDD1 (power), T10 VSS (power), T11 RESET_n (in), T12 VSS (power), U1 VDD1 (power), U2 NC, U3 VDDQ (power), U4 NC, U5 VDD2 (power), U8 VDD2 (power), U9 NC, U10 VDDQ (power), U11 NC, U12 VDD1 (power), V1 VSS (power), V2 NC, V3 NC, V4 NC, V5 VSS (power), V8 VSS (power), V9 NC, V10 NC, V11 NC, V12 VSS (power), W1 VDDQ (power), W2 VSS (power), W3 NC, W4 VSS (power), W5 VDDQ (power), W8 VDDQ (power), W9 VSS (power), W10 NC, W11 VSS (power), W12 VDDQ (power), Y1 VSS (power), Y2 NC, Y3 NC, Y4 NC, Y5 VSS (power), Y8 VSS (power), Y9 NC, Y10 NC, Y11 NC, Y12 VSS (power)
part A text: 1 of 2
part B text: 2 of 2

## PCA9450BHNY
designator U?  Supplier Part Number 1: 568-PCA9450BHNYCT-ND
Power Manage Ic (Pmic) For I.mx 8M Nano Rohs Compliant: Yes |Nxp PCA9450BHNY; Manufacturer: NXP Semiconductors; Supplier 1: Digikey; Manufacturer Part Number: PCA9450BHNY; RoHS: No; Category: Power Management ICs; Stock 1: 7995; Pricing 1: 1=5.66, 10=4.331, 25=3.9992, 100=3.6339, 250=3.45972, 500=3.35474, 1000=3.26833 (USD); RoHS Compliant: Yes; ComponentLink1URL: https://datasheet.octopart.com/PCA9450BHNY-NXP-Semiconductors-datasheet-150009921.pdf?src-supplier=Future+Electronics; ComponentLink1Description: https://datasheet.octopart.com/PCA9450BHNY-NXP-Semiconductors-datasheet-150009921.pdf?src-supplier=Future+Electronics
footprint HVQFN56_SOT949-6_NXP
pins: 1 LDO4 (power), 2 LDO2 (power), 3 LDO1 (power), 4 VINT (power), 5 AGND (power), 6 RTC_RESET_B (out), 7 CLK_32K_OUT (out), 8 PMIC_RST_B (in), 9 POR_B (out), 10 XTAL_IN, 11 XTAL_OUT, 12 SW_EN (in), 13 IRQ_B (out), 14 BUCK5FB, 15 LX5 (power), 16 INB45 (power), 17 INB45 (power), 18 INB45 (power), 19 LX4 (power), 20 LX4 (power), 21 BUCK4FB, 22 SWIN (power), 23 SWOUT (power), 24 SDAH (io), 25 SCLH (out), 26 SDAL (io), 27 SCLL (out), 28 WDOG_B (in), 29 SD_VSEL (in), 30 R_SNSP3_CFG, 31 LX3 (power), 32 LX3 (power), 33 INB13 (power), 34 INB13 (power), 35 INB13 (power), 36 LX1 (power), 37 LX1 (power), 38 R_SNSP1, 39 PMIC_ON_REQ (in), 40 PMIC_STBY_REQ (in), 41 SCL (in), 42 SDA (io), 43 BUCK_AGND (power), 44 R_SNSP2, 45 LX2 (power), 46 LX2 (power), 47 INB26 (power), 48 INB26 (power), 49 INB26 (power), 50 LX6 (power), 51 LX6 (power), 52 BUCK6FB, 53 VSYS (power), 54 LDO3 (power), 55 LDO5 (power), 56 INL1 (power), 57 EP (power)

## RC0402FR-075K1L
designator R?, comment 5K1
SMD Chip Resistor, 5.1 kOhm, ï¿½ 1%, 62.5 mW, 0402 [1005 Metric], Thick Film, General Purpose; Manufacturer: Yageo; Manufacturer Part Number: RC0402FR-075K1L; Power Rating: 63mW; Voltage Rating: 50V; Resistance: 5.1kR; Temperature Coefficient: 100ppm/°C; Supplier 1: Digikey; RoHS: Yes; Category: Chip SMD Resistors; Stock 1: 868211; Pricing 1: 1=0.1, 10=0.009, 50=0.0072, 100=0.0041, 500=0.00306 (USD); Case/Package: 0402; Case Code (Metric): 1005; Case Code (Imperial): 0402; Min Operating Temperature: -55°C; Max Operating Temperature: 155°C; Tolerance: 1%; Packaging: Tape and Reel; Package Quantity: 1; Resistor Type: Thick Film; Number of Terminations: 2; Termination: SMD/SMT; Max Power Dissipation: 63mW; Features: Moisture Resistant; Series: RC; Resistance Tolerance: 1%; Technology: THICK FILM; Voltage Rating (DC): 50V; Working Voltage: 50V; Construction: Rectangular; Length: 1mm; Width: 0.02inch; Height: 0.016inch; Depth: 0.5mm; RoHS Compliant: Yes; Reach SVHC Compliant: Unknown; Lead Free: 5697LeadFree; Military Standard: Not; Supplier Part Number 1: 311-5.10KLRCT-ND; LCSC: C105872
footprint RC0402
pins: 1, 2

## RC0402JR-0710KL
designator R?, comment 10k
SMD Chip Resistor, 10 kOhm, ï¿½ 5%, 62.5 mW, 0402 [1005 Metric], Thick Film, General Purpose; Manufacturer: Yageo; Manufacturer Part Number: RC0402JR-0710KL; Resistance: 10kR; Power Rating: 62.5mW; Voltage Rating: 50V; Temperature Coefficient: 100ppm/°C; Max Power Dissipation: 63mW; Supplier 1: Digikey; RoHS: Yes; Category: Chip SMD Resistors; Stock 1: 16677034; Pricing 1: 1=0.1, 10=0.007, 50=0.0066, 100=0.0061, 500=0.0051, 1000=0.00408, 5000=0.00284 (USD); Case/Package: 0402; Case Code (Metric): 1005; Case Code (Imperial): 0402; Size Code: 0402; Min Operating Temperature: -55°C; Max Operating Temperature: 155°C; Packaging: Tape and Reel; Tolerance: 5%; Package Quantity: 1; Resistor Type: Thick Film; Number of Terminations: 2; Termination: SMD/SMT; Features: Moisture Resistant; Series: RC; Resistance Tolerance: 5%; Construction: Rectangular; Voltage Rating (AC): 50V; Length: 0.039inch; Width: 0.02inch; Height: 0.016inch; Depth: 0.5mm; Military Standard: Not; Lead Free: Lead Free; RoHS Compliant: Yes; Reach SVHC Compliant: Unknown; ComponentLink1URL: https://datasheet.ciiva.com/2452/pyu-r-int-thick-7-2452626.pdf?src-supplier=Digikey; ComponentLink1Description: https://datasheet.ciiva.com/2452/pyu-r-int-thick-7-2452626.pdf?src-supplier=Digikey; ComponentLink2URL: https://datasheet.ciiva.com/2452/pyu-r-int-thick-7-2452627.pdf?src-supplier=Digikey; ComponentLink2Description: https://datasheet.ciiva.com/2452/pyu-r-int-thick-7-2452627.pdf?src-supplier=Digikey; ComponentLink3URL: https://datasheet.ciiva.com/2452/pyu-r-int-thick-7-2452628.pdf?src-supplier=Digikey; ComponentLink3Description: https://datasheet.ciiva.com/2452/pyu-r-int-thick-7-2452628.pdf?src-supplier=Digikey; ComponentLink4URL: https://datasheet.ciiva.com/7850/1018594-7850136.pdf?src-supplier=Element14; ComponentLink4Description: https://datasheet.ciiva.com/7850/1018594-7850136.pdf?src-supplier=Element14; ComponentLink5URL: https://datasheet.ciiva.com/7850/1018594-7850137.pdf?src-supplier=Element14; ComponentLink5Description: https://datasheet.ciiva.com/7850/1018594-7850137.pdf?src-supplier=Element14; ComponentLink6URL: https://datasheet.ciiva.com/12669/pyu-rc0402-51-rohs-l-6-r-12669687.pdf?src-supplier=Mouser; ComponentLink6Description: https://datasheet.ciiva.com/12669/pyu-rc0402-51-rohs-l-6-r-12669687.pdf?src-supplier=Mouser; Supplier Part Number 1: 311-10KJRCT-ND
footprint RC0402X
pins: 1, 2

## RES
designator R?
CLASS: DISCRETE
footprint RC0402X
pins: 1, 2

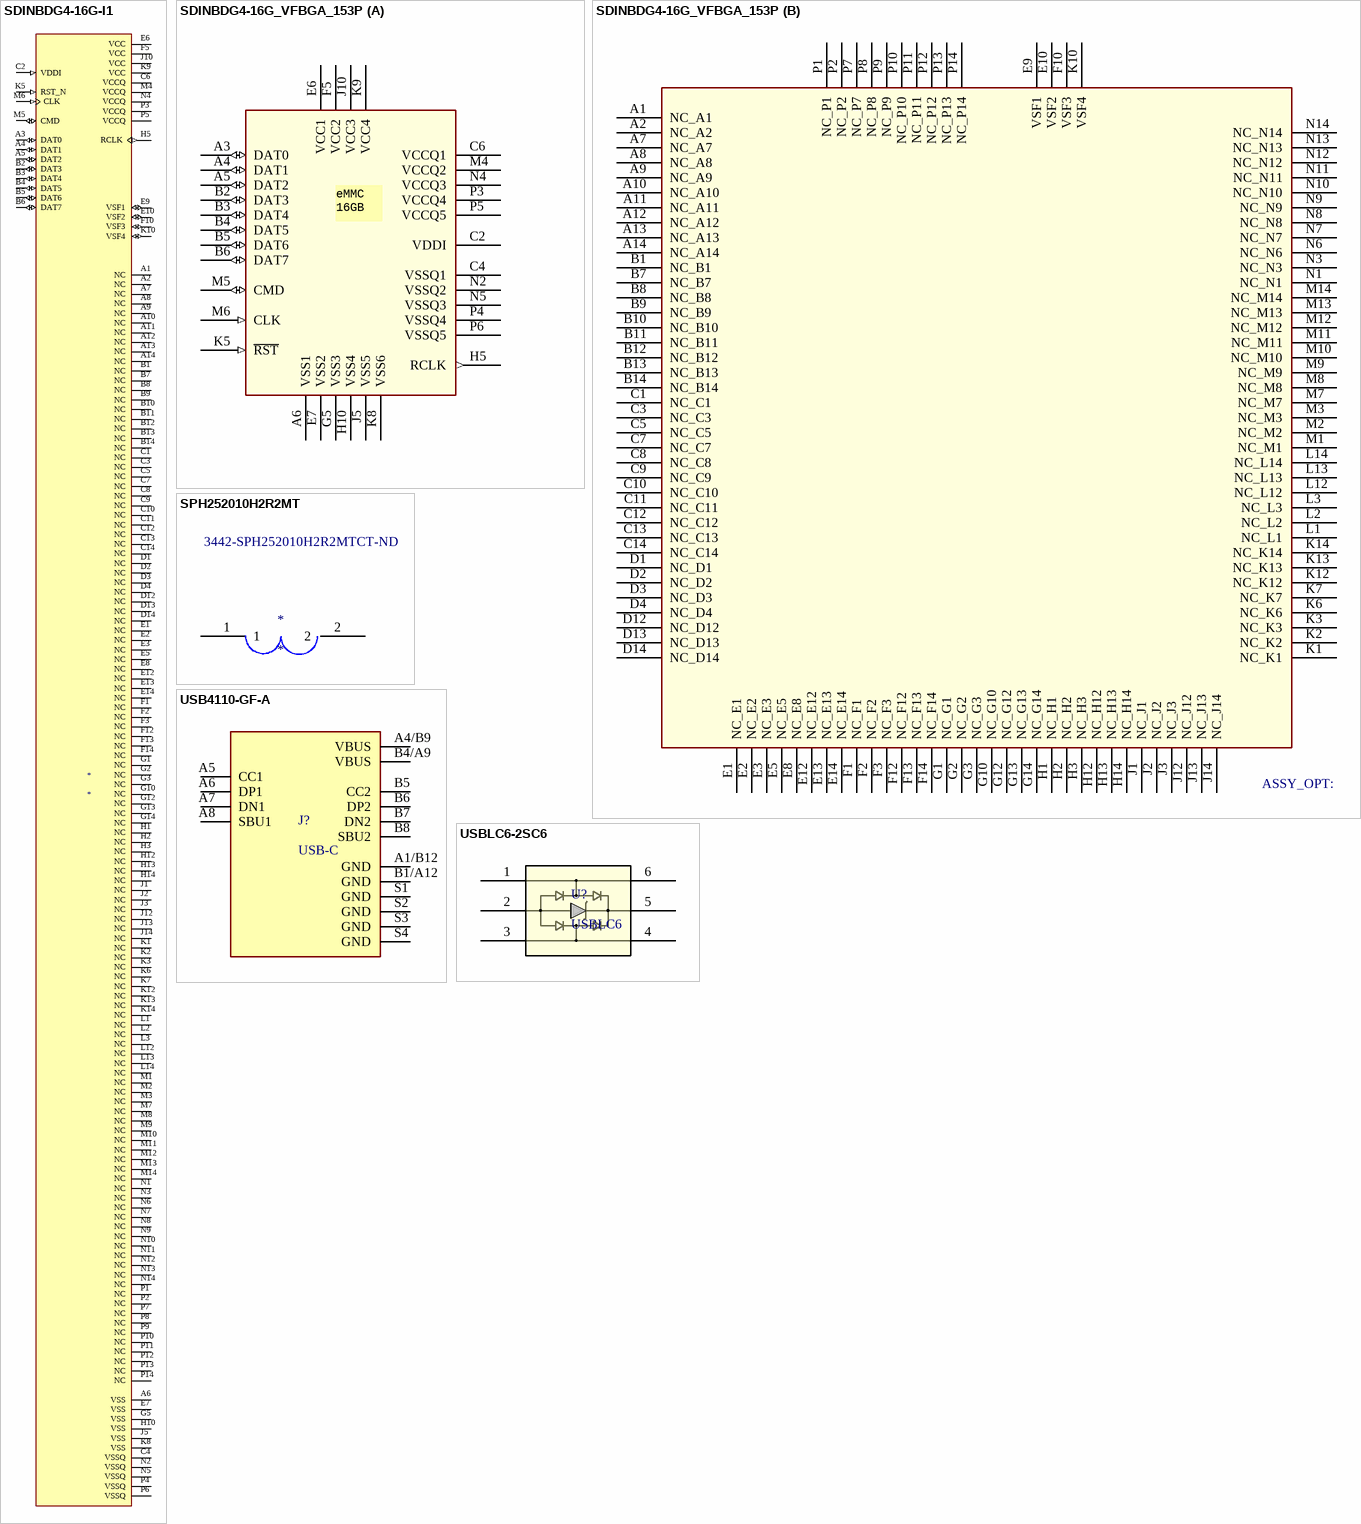
[diagram p3: symbols SDINBDG4-16G-I1 to USBLC6-2SC6]

## SDINBDG4-16G-I1
designator *
footprint BGA153N50P14X14_1300X1150X80
pins: A1 NC, A2 NC, A3 DAT0 (io), A4 DAT1 (io), A5 DAT2 (io), A6 VSS (power), A7 NC, A8 NC, A9 NC, A10 NC, A11 NC, A12 NC, A13 NC, A14 NC, B1 NC, B2 DAT3 (io), B3 DAT4 (io), B4 DAT5 (io), B5 DAT6 (io), B6 DAT7 (io), B7 NC, B8 NC, B9 NC, B10 NC, B11 NC, B12 NC, B13 NC, B14 NC, C1 NC, C2 VDDI (in), C3 NC, C4 VSSQ (power), C5 NC, C6 VCCQ (power), C7 NC, C8 NC, C9 NC, C10 NC, C11 NC, C12 NC, C13 NC, C14 NC, D1 NC, D2 NC, D3 NC, D4 NC, D12 NC, D13 NC, D14 NC, E1 NC, E2 NC, E3 NC, E5 NC, E6 VCC (power), E7 VSS (power), E8 NC, E9 VSF1 (io), E10 VSF2 (io), E12 NC, E13 NC, E14 NC, F1 NC, F2 NC, F3 NC, F5 VCC (power), F10 VSF3 (io), F12 NC, F13 NC, F14 NC, G1 NC, G2 NC, G3 NC, G5 VSS (power), G10 NC, G12 NC, G13 NC, G14 NC, H1 NC, H2 NC, H3 NC, H5 RCLK (out), H10 VSS (power), H12 NC, H13 NC, H14 NC, J1 NC, J2 NC, J3 NC, J5 VSS (power), J10 VCC (power), J12 NC, J13 NC, J14 NC, K1 NC, K2 NC, K3 NC, K5 RST_N (in), K6 NC, K7 NC, K8 VSS (power), K9 VCC (power), K10 VSF4 (io), K12 NC, K13 NC, K14 NC, L1 NC, L2 NC, L3 NC, L12 NC, L13 NC, L14 NC, M1 NC, M2 NC, M3 NC, M4 VCCQ (power), M5 CMD (io), M6 CLK (in), M7 NC, M8 NC, M9 NC, M10 NC, M11 NC, M12 NC, M13 NC, M14 NC, N1 NC, N2 VSSQ (power), N3 NC, N4 VCCQ (power), N5 VSSQ (power), N6 NC, N7 NC, N8 NC, N9 NC, N10 NC, N11 NC, N12 NC, N13 NC, N14 NC, P1 NC, P2 NC, P3 VCCQ (power), P4 VSSQ (power), P5 VCCQ (power), P6 VSSQ (power), P7 NC, P8 NC, P9 NC, P10 NC, P11 NC, P12 NC, P13 NC, P14 NC

## SDINBDG4-16G_VFBGA_153P
designator U?
CLASS: IC
footprint BGA153N50P14X14_1300X1150X80
part A pins: A3 DAT0 (io), A4 DAT1 (io), A5 DAT2 (io), A6 VSS1 (power), B2 DAT3 (io), B3 DAT4 (io), B4 DAT5 (io), B5 DAT6 (io), B6 DAT7 (io), C2 VDDI (power), C4 VSSQ1 (power), C6 VCCQ1 (power), E6 VCC1 (power), E7 VSS2 (power), F5 VCC2 (power), G5 VSS3 (power), H5 RCLK (out), H10 VSS4 (power), J5 VSS5 (power), J10 VCC3 (power), K5 ~{RST} (in), K8 VSS6 (power), K9 VCC4 (power), M4 VCCQ2 (power), M5 CMD (io), M6 CLK (in), N2 VSSQ2 (power), N4 VCCQ3 (power), N5 VSSQ3 (power), P3 VCCQ4 (power), P4 VSSQ4 (power), P5 VCCQ5 (power), P6 VSSQ5 (power)
part B pins: A1 NC_A1, A2 NC_A2, A7 NC_A7, A8 NC_A8, A9 NC_A9, A10 NC_A10, A11 NC_A11, A12 NC_A12, A13 NC_A13, A14 NC_A14, B1 NC_B1, B7 NC_B7, B8 NC_B8, B9 NC_B9, B10 NC_B10, B11 NC_B11, B12 NC_B12, B13 NC_B13, B14 NC_B14, C1 NC_C1, C3 NC_C3, C5 NC_C5, C7 NC_C7, C8 NC_C8, C9 NC_C9, C10 NC_C10, C11 NC_C11, C12 NC_C12, C13 NC_C13, C14 NC_C14, D1 NC_D1, D2 NC_D2, D3 NC_D3, D4 NC_D4, D12 NC_D12, D13 NC_D13, D14 NC_D14, E1 NC_E1, E2 NC_E2, E3 NC_E3, E5 NC_E5, E8 NC_E8, E9 VSF1, E10 VSF2, E12 NC_E12, E13 NC_E13, E14 NC_E14, F1 NC_F1, F2 NC_F2, F3 NC_F3, F10 VSF3, F12 NC_F12, F13 NC_F13, F14 NC_F14, G1 NC_G1, G2 NC_G2, G3 NC_G3, G10 NC_G10, G12 NC_G12, G13 NC_G13, G14 NC_G14, H1 NC_H1, H2 NC_H2, H3 NC_H3, H12 NC_H12, H13 NC_H13, H14 NC_H14, J1 NC_J1, J2 NC_J2, J3 NC_J3, J12 NC_J12, J13 NC_J13, J14 NC_J14, K1 NC_K1, K2 NC_K2, K3 NC_K3, K6 NC_K6, K7 NC_K7, K10 VSF4, K12 NC_K12, K13 NC_K13, K14 NC_K14, L1 NC_L1, L2 NC_L2, L3 NC_L3, L12 NC_L12, L13 NC_L13, L14 NC_L14, M1 NC_M1, M2 NC_M2, M3 NC_M3, M7 NC_M7, M8 NC_M8, M9 NC_M9, M10 NC_M10, M11 NC_M11, M12 NC_M12, M13 NC_M13, M14 NC_M14, N1 NC_N1, N3 NC_N3, N6 NC_N6, N7 NC_N7, N8 NC_N8, N9 NC_N9, N10 NC_N10, N11 NC_N11, N12 NC_N12, N13 NC_N13, N14 NC_N14, P1 NC_P1, P2 NC_P2, P7 NC_P7, P8 NC_P8, P9 NC_P9, P10 NC_P10, P11 NC_P11, P12 NC_P12, P13 NC_P13, P14 NC_P14
part A text: eMMC / 16GB

## SPH252010H2R2MT
designator *  Supplier Part Number 1: 3442-SPH252010H2R2MTCT-ND
Fixed Ind 2.220%UH 0.114 Ohm 1800; Manufacturer: Sunlord; Manufacturer Part Number: SPH252010H2R2MT; Supplier 1: Digikey; RoHS: Yes; Category: Fixed Inductors; Stock 1: 1953; Pricing 1: 1=0.27, 10=0.207, 25=0.1872, 50=0.1736, 100=0.1609, 250=0.14548, 500=0.13478, 1000=0.125 (USD); RoHS Compliant: Yes
footprint IND-SMD_L2.5-W2.0_SWPA252012S
pins: 1, 2

## USB4110-GF-A
designator J?, comment USB-C
USB Connector, 16 Contact(s), Male, Right Angle, Surface Mount Terminal, Locking, Receptacle; Manufacturer: Global Connector Technology; Manufacturer Part Number: USB4110-GF-A; USB Standard: 6108USBStandard; Number of Contacts: 16NUMBER; Voltage Rating: 20V; Supplier 1: Digikey; RoHS: No; Category: USB Connectors; Stock 1: 30215; Pricing 1: 1=1.64, 10=1.244, 25=1.1176, 50=1.032, 100=0.9547, 250=0.86368, 500=0.80254 (USD); Number of Pins: 16NUMBER; Contact Material: 153,157ConductorMaterial; Orientation: 5496OrientationType; Height: 3.46mm; ComponentLink1URL: https://gct.co/files/drawings/usb4110.pdf?src-supplier=Digikey; ComponentLink1Description: https://gct.co/files/drawings/usb4110.pdf?src-supplier=Digikey; Supplier Part Number 1: 2073-USB4110-GF-A-1-ND; LCSC: USB4110-GF-A
footprint GCT_USB4110GFA
pins: A1/B12 GND, A4/B9 VBUS, A5 CC1, A6 DP1, A7 DN1, A8 SBU1, B1/A12 GND, B4/A9 VBUS, B5 CC2, B6 DP2, B7 DN2, B8 SBU2, S1 GND, S2 GND, S3 GND, S4 GND

## USBLC6-2SC6
designator U?, comment USBLC6
ESD Suppressor Diode Array Dual Uni-Dir 15kV Air Gap/15kV Contact Disc 6-Pin SOT-23 T/R; Manufacturer: STMicroelectronics; Manufacturer Part Number: USBLC6-2SC6; Data Rate: 480Mbps; Direction: Unidirectional,Bidirectional; Capacitance: 3.5pF; Operating Supply Voltage: 1.1V; Number of Elements: 1; Number of Channels: 2; Reverse Breakdown Voltage: 6V; Clamping Voltage: 17V; Working Voltage: 5V; Reverse Standoff Voltage: 5.25V; Power Line Protection: Yes; Test Current: 1mA; Max Reverse Leakage Current: 150nA; Peak Pulse Current: 5A; Supplier 1: Digikey; RoHS: Yes; Category: TVS Diodes; Stock 1: 85420; Pricing 1: 1=0.36, 10=0.243, 100=0.163, 500=0.127, 1000=0.114, 3000=0.09, 6000=0.084, 9000=0.078, 15000=0.077, 21000=0.0755, 30000=0.075 (USD); Mount: Surface Mount; Case/Package: SOT-23; Number of Pins: 6; Min Operating Temperature: -40°C; Max Operating Temperature: 125°C; Packaging: Tape and Reel; Package Quantity: 3000; Polarity: Unidirectional,Bidirectional; Breakdown Voltage: 6V; Termination: SMD/SMT; Number of Bidirectional Channels: 2; Min Breakdown Voltage: 6V; ESD Protection: Yes; Max Breakdown Voltage: 6V; Leakage Current: 150nA; Series: USB; Clamping Voltage-Max: 17V; Max Repetitive Reverse Voltage (Vrrm): 5.25V; Length: 3.05mm; Width: 1.75mm; Height: 1.3mm; Depth: 1.75mm; Radiation Hardening: No; Reach SVHC Compliant: No; Lead Free: Lead Free; RoHS Compliant: Yes; ComponentLink1URL: https://datasheet.ciiva.com/1268/1690354-1268384.pdf?src-supplier=Element14; ComponentLink1Description: https://datasheet.ciiva.com/1268/1690354-1268384.pdf?src-supplier=Element14; ComponentLink2URL: https://datasheet.ciiva.com/4508/cd00050750-113117-4508433.pdf?src-supplier=Mouser; ComponentLink2Description: https://datasheet.ciiva.com/4508/cd00050750-113117-4508433.pdf?src-supplier=Mouser; ComponentLink3URL: https://datasheet.ciiva.com/41444/001184109-da-01-en-ic-esd-protecti-usblc6-2sc6-sot-23-6-stm-41444156.pdf?src-supplier=Conrad; ComponentLink3Description: https://datasheet.ciiva.com/41444/001184109-da-01-en-ic-esd-protecti-usblc6-2sc6-sot-23-6-stm-41444156.pdf?src-supplier=Conrad; Supplier Part Number 1: 497-5235-1-ND; LCSC: C5250994
footprint SOT23-6L_STM
pins: 1, 2, 3, 4, 5, 6